# EAGLE library part XL1530 (library usb)
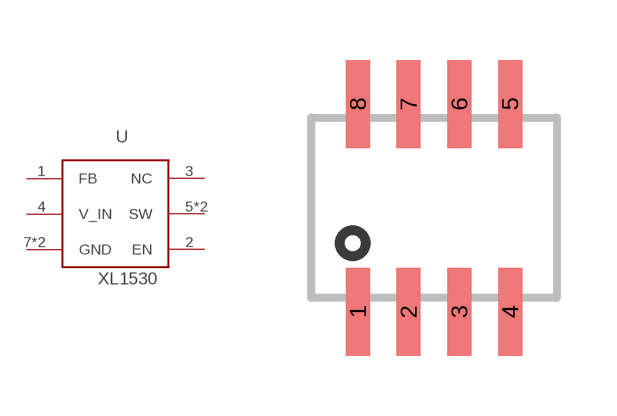
[diagram p11: symbol with the pads of SOP08; footprint SOP08]

Designator prefix U

## XL1530  [SOP08]
1  FB
2  EN
3  NC
4  V_IN
5  SW
6  SW
7  GND
8  GND

## Footprint SOP08 (pad centres in mm)
SMALL OUTLINE PACKAGE
smd 0.6 x 2.2: 1 -1.905,-2.6; 2 -0.635,-2.6; 3 0.635,-2.6; 4 1.905,-2.6; 5 1.905,2.6; 6 0.635,2.6; 7 -0.635,2.6; 8 -1.905,2.6